# Altium schematic symbol library 3x2.54_Connector_male.SchLib: 1 symbol
Pins are listed as number, name and electrical type; pins without a type are passive.

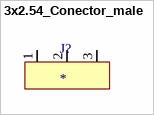
[diagram p0: symbol 3x2.54_Conector_male]

## 3x2.54_Conector_male
designator J?
footprint 3x2.54_Connector_male
pins: 1, 2, 3